# Altium footprint library 386.PcbLib: 1 footprints
Each footprint in its own frame and in the unit in brackets; x right, y up, seen from the top. Pads: shape width x height; smd on the part's side, far side on the other; paste and mask are expansions set on the pad; w line width, h text height; cw(c..) or ccw(c..) is an arc to the next point about the centre after c.
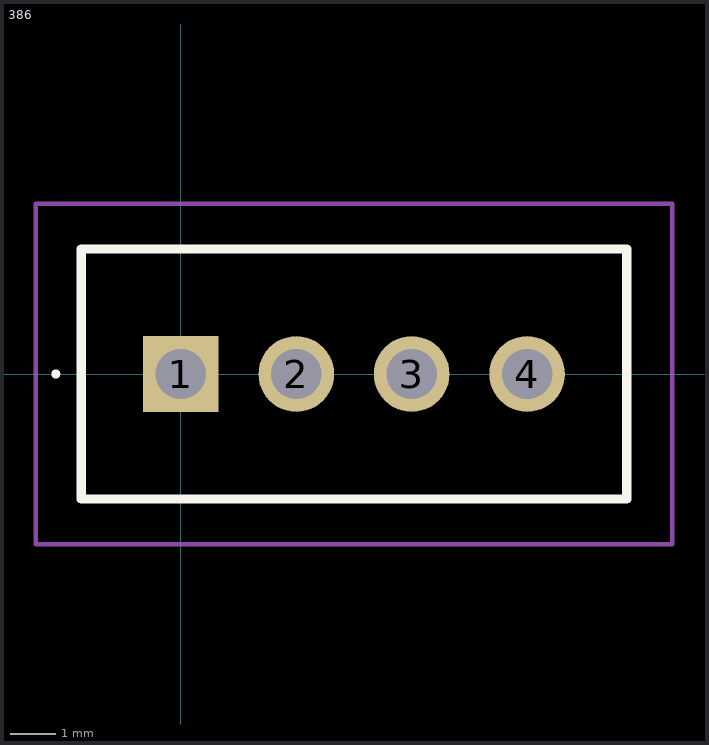
[diagram p0: the footprint, top view; thin cyan lines are the x and y axes]

## 386 [mm]
pads (4):
  rect 1.665x1.665 hole 1.11: 1(0,0)
  round 1.665 hole 1.11: 2(2.54,0) 3(5.08,0) 4(7.62,0)
Top Overlay:
  lines w0.1: -2.8,0 -2.8,0 ; -2.8,0 ccw(c-2.75,0) -2.7,0 ; -2.8,0 cw(c-2.75,0) -2.7,0 ; -2.7,0 -2.7,0
  lines w0.2: -2.19,-2.75 9.81,-2.75 9.81,2.75 -2.19,2.75 -2.19,-2.75
Mechanical 15:
  lines w0.1: -2.19,-2.75 9.81,-2.75 9.81,2.75 -2.19,2.75 -2.19,-2.75
Mechanical 20:
  lines w0.1: -3.19,-3.75 10.81,-3.75 10.81,3.75 -3.19,3.75 -3.19,-3.75